# EAGLE library part RADIO-RFM12 (library p.peter-ics)
RFM12 Funk Modul
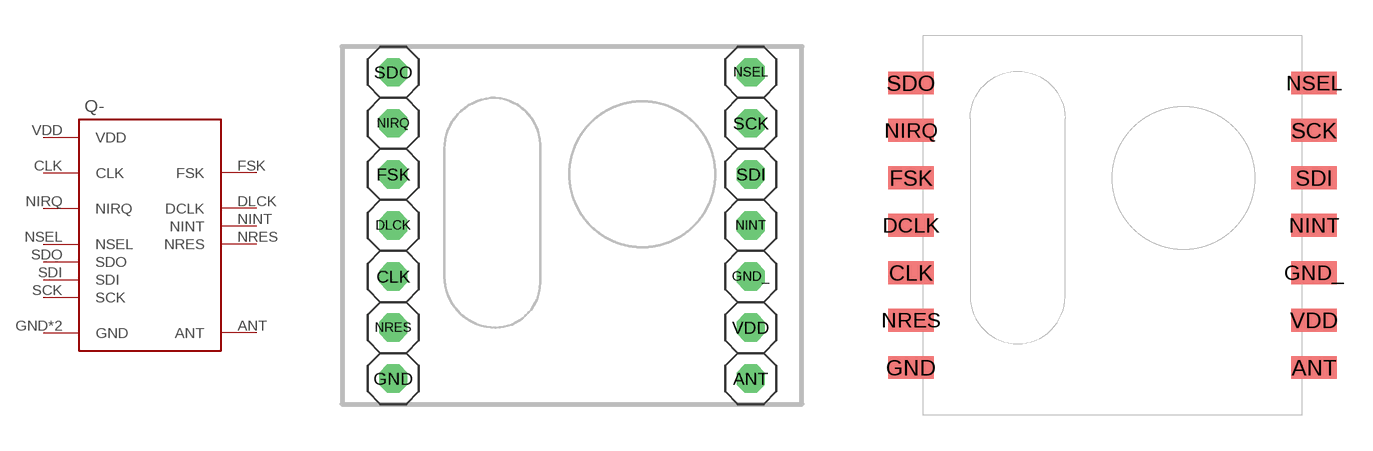
[diagram p1: symbol with the pads of RADIO-RFM12-DIP; footprints RADIO-RFM12-DIP, RADIO-RFM12-SMD]

Designator prefix Q-

## RADIO-RFM12DIP-BREAKOUT, RADIO-RFM12TESTDIP-BREAKOUT  [RADIO-RFM12-DIP]
ANT  ANT  out
CLK  CLK
DLCK  DCLK
FSK  FSK
GND  GND
GND_  GND
NINT  NINT
NIRQ  NIRQ
NRES  NRES
NSEL  NSEL
SCK  SCK
SDI  SDI
SDO  SDO
VDD  VDD  pwr

## RADIO-RFM12SMD  [RADIO-RFM12-SMD]
ANT  ANT  out
CLK  CLK
DCLK  DCLK
FSK  FSK
GND  GND
GND_  GND
NINT  NINT
NIRQ  NIRQ
NRES  NRES
NSEL  NSEL
SCK  SCK
SDI  SDI
SDO  SDO
VDD  VDD  pwr

## Footprint RADIO-RFM12-DIP (pad centres in mm)
RFM12 on a tight dip breakout board
drill 0.9 octagon: ANT 8.89,-7.62; CLK -8.89,-2.54; DLCK -8.89,0; FSK -8.89,2.54; GND -8.89,-7.62; GND_ 8.89,-2.54; NINT 8.89,0; NIRQ -8.89,5.08; NRES -8.89,-5.08; NSEL 8.89,7.62; SCK 8.89,5.08; SDI 8.89,2.54; SDO -8.89,7.62; VDD 8.89,-5.08

## Footprint RADIO-RFM12-SMD (pad centres in mm)
RFM12 radio module as SMD part
smd 1.93 x 0.965: ANT 8.5,-6; CLK -8.5,-2; DCLK -8.5,0; FSK -8.5,2; GND -8.5,-6; GND_ 8.5,-2; NINT 8.5,0; NIRQ -8.5,4; NRES -8.5,-4; NSEL 8.5,6; SCK 8.5,4; SDI 8.5,2; SDO -8.5,6; VDD 8.5,-4